# EAGLE library part ECC808-P (library old Tubes)
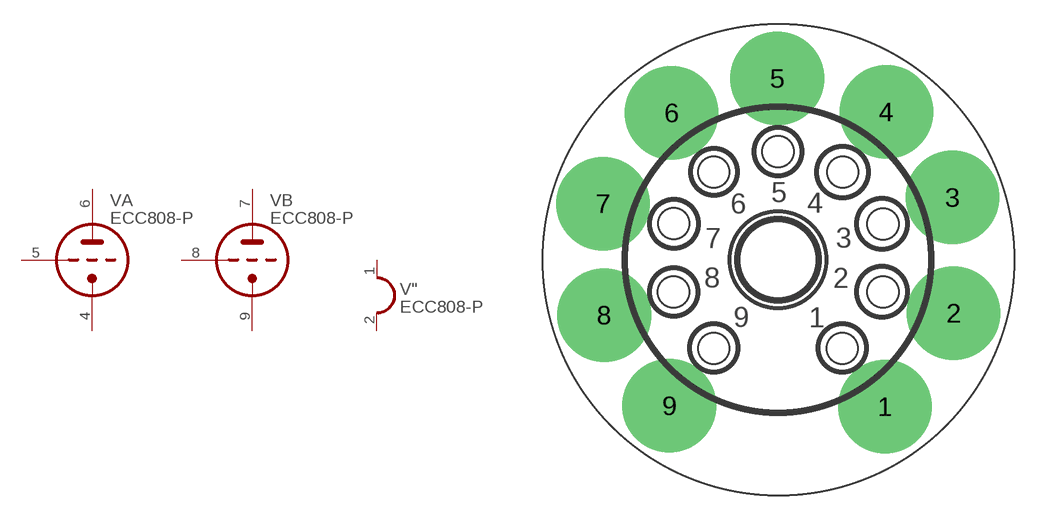
[diagram p11: symbol with the pads of NOVAL; footprint NOVAL]

Designator prefix V; gates A=TRIODE B=TRIODE "=HEATER_1

## ECC808-P  [NOVAL]
1  ":H1  pas
2  ":H2  pas
4  A:TK  pas
5  A:TG  pas
6  A:TA  pas
7  B:TA  pas
8  B:TG  pas
9  B:TK  pas

## Footprint NOVAL (pad centres in mm)
drill 2 pad 5.842: 1 6.682,-9.176; 2 10.961,-3.335; 3 10.884,3.896; 4 6.763,9.239; 5 -0.047,11.334; 6 -6.646,9.182; 7 -10.936,3.508; 8 -10.847,-3.457; 9 -6.788,-9.12